# Altium footprint library Modulo de apertura.PcbLib: 18 footprints (part 2 of 2)
Each footprint in its own frame and in the unit in brackets; x right, y up, seen from the top. Pads: shape width x height; smd on the part's side, far side on the other; paste and mask are expansions set on the pad; w line width, h text height; cw(c..) or ccw(c..) is an arc to the next point about the centre after c.
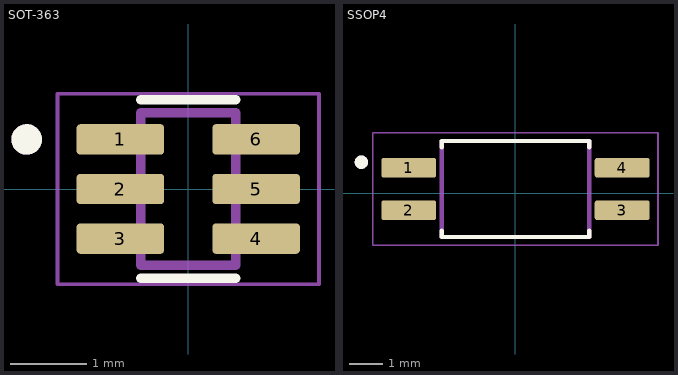
[diagram p1: the footprints below, top view; thin cyan lines are the x and y axes]

## SOT-363 [mm]
pads (6):
  rrect25% 1.15x0.4 smd: 1(-0.89,0.65) 2(-0.89,0) 3(-0.89,-0.65) 4(0.89,-0.65) 5(0.89,0) 6(0.89,0.65)
Top Overlay:
  circle w0.2: c-2.12,0.65 r0.1
  lines w0.127: -0.625,-1.17 0.625,-1.17 ; -0.625,1.17 0.625,1.17
Mechanical 13:
  circle w0.2: c-2.12,0.65 r0.1
  lines w0.127: -0.625,-1 -0.625,1 0.625,1 0.625,-1 -0.625,-1
Mechanical 15:
  lines w0.05: -1.715,-1.25 -1.715,1.25 1.715,1.25 1.715,-1.25 -1.715,-1.25
3D body "step_temp.STEP": height 1.1, standoff 0, extent -1.05,-1 1.05,1

## SSOP4 [mm]
pads (4):
  rrect25% 1.64x0.59 smd: 1(-3.185,0.762) 2(-3.185,-0.508) 3(3.185,-0.508) 4(3.185,0.762)
Top Overlay:
  circle w0.2: c-4.6,0.927 r0.1
  lines w0.127: -2.2,-1.118 -2.2,-1.303 2.2,-1.303 2.2,-1.118 ; -2.2,1.372 -2.2,1.557 2.2,1.557 2.2,1.372
Mechanical 13:
  circle w0.2: c-4.6,0.927 r0.1
  lines w0.127: -2.2,-1.303 -2.2,1.557 2.2,1.557 2.2,-1.303 -2.2,-1.303
Mechanical 15:
  lines w0.05: -4.255,-1.553 -4.255,1.807 4.255,1.807 4.255,-1.553 -4.255,-1.553
3D body "step_temp.STEP": height 2.1, standoff 0, extent -3.5,-1.173 3.5,1.427